# Altium schematic symbol library MezzaninBoard.SchLib: 20 symbols
Pins are listed as number, name and electrical type; pins without a type are passive.

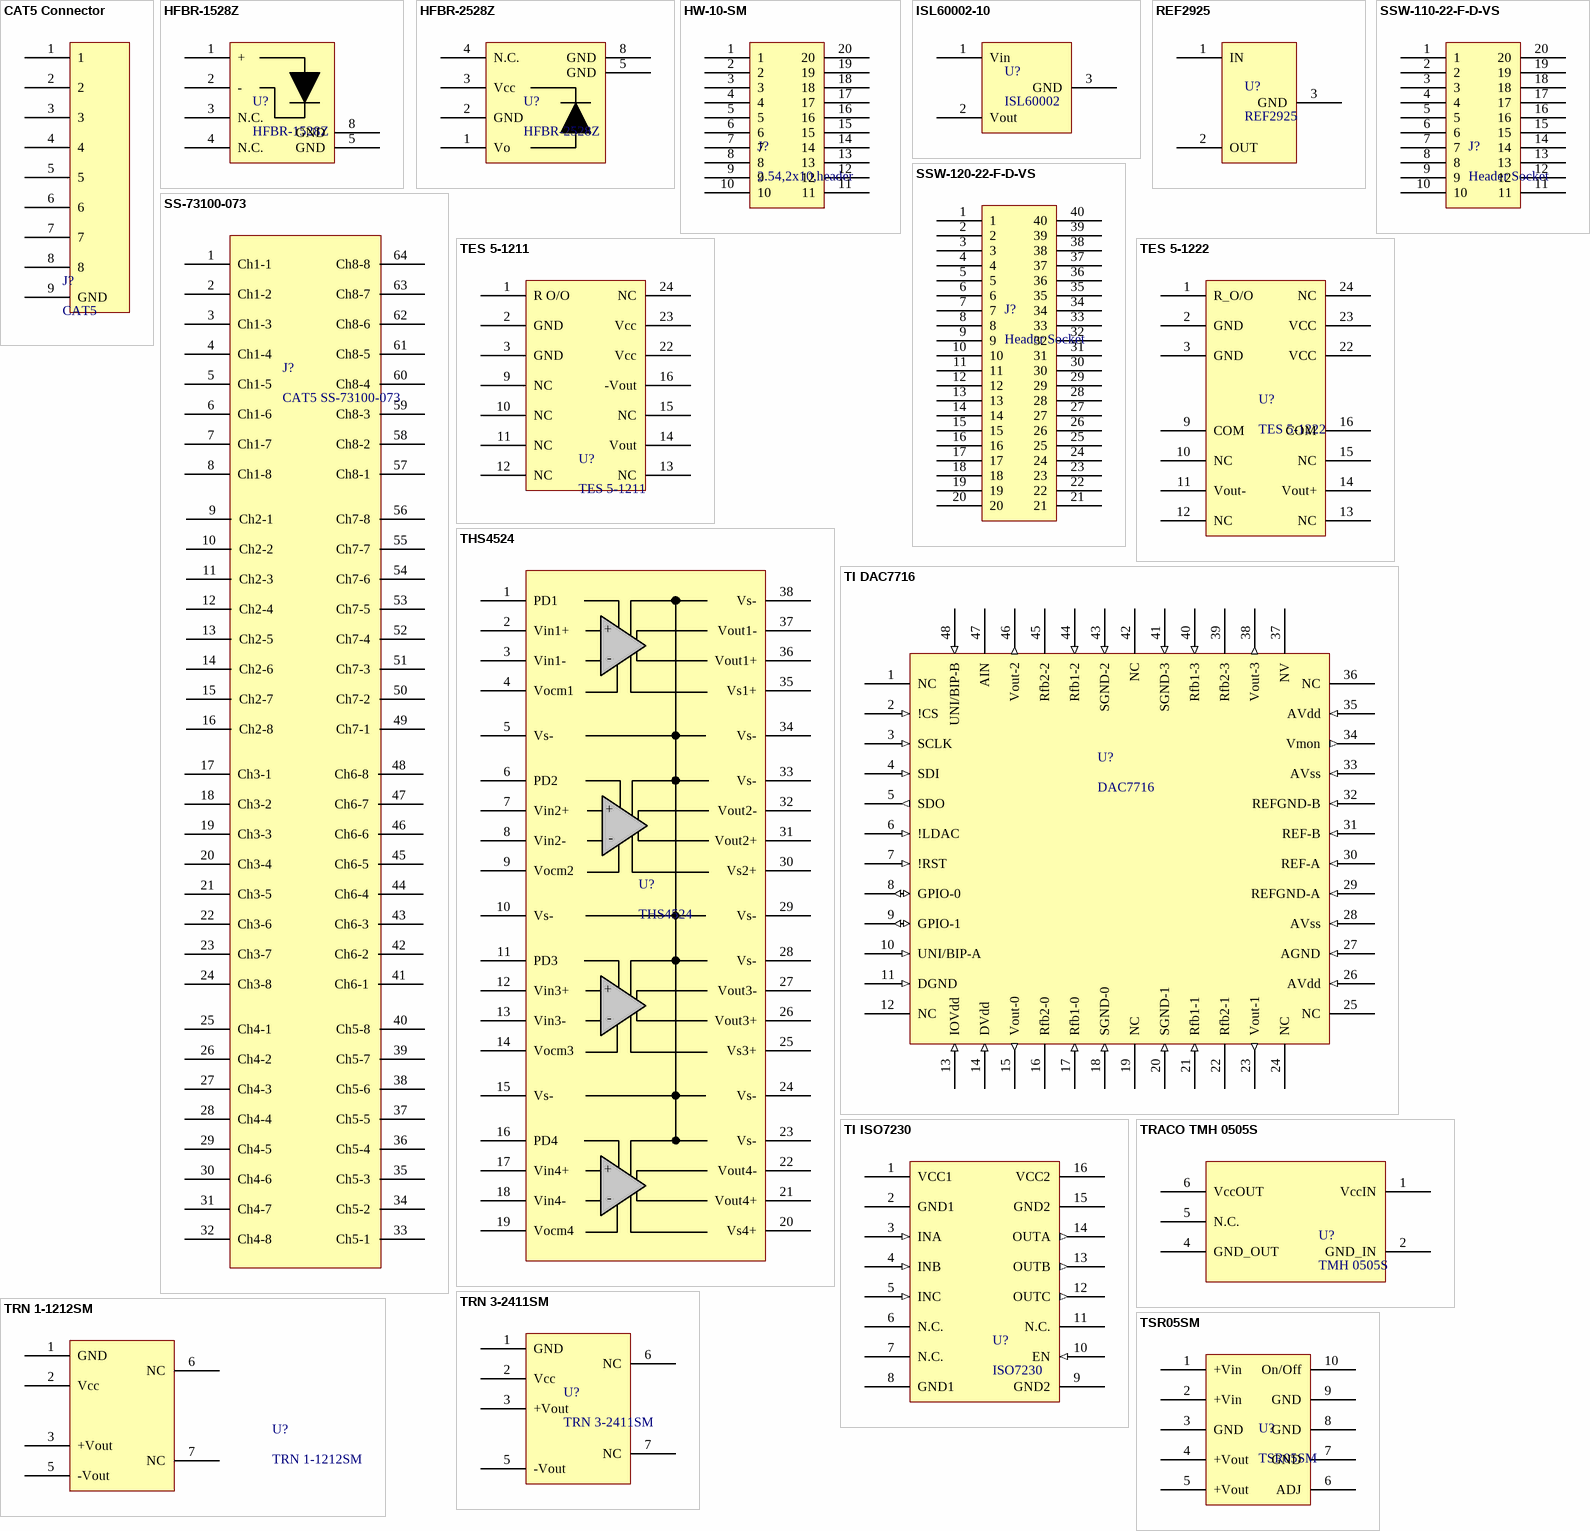
[diagram p0: symbols CAT5 Connector to TSR05SM]

## CAT5 Connector
designator J?, comment CAT5
CAT5 Connector
footprint CAT5 JACK
pins: 1, 2, 3, 4, 5, 6, 7, 8, 9 GND

## HFBR-1528Z
designator U?
Optical Transmitter
footprint HFBR25XX
pins: 1 + "Anode", 2 - "Cathode", 3 N.C. "Not Connected", 4 N.C. "Not Connected", 5 GND, 8 GND

## HFBR-2528Z
designator U?
Optical Reciever
footprint HFBR25XX
pins: 1 Vo "Data", 2 GND "Ground", 3 Vcc "Source", 4 N.C. "Not Connected", 5 GND, 8 GND

## HW-10-SM
designator J?, comment 2.54,2x10,header
2.54mm spacing, 2 rows, 10 pin, surface mounted header
footprint HW-10-20-F-D-825-SM
footprint HW-10-08-F-D-250-SM
pins: 1, 2, 3, 4, 5, 6, 7, 8, 9, 10, 11, 12, 13, 14, 15, 16, 17, 18, 19, 20

## ISL60002-10
designator U?, comment ISL60002
1.024V ref voltage
footprint REF2925 (TI 2.5V Ref source)
pins: 1 Vin, 2 Vout, 3 GND

## REF2925
designator U?
2.5V reference coltage
footprint REF2925 (TI 2.5V Ref source)
pins: 1 IN, 2 OUT, 3 GND

## SS-73100-073
designator J?, comment CAT5 SS-73100-073
8p8c RJ45, Stewart Connector, 8 Ch
footprint CT730079 (8 Channel CAT5 Connector)
pins: 1 Ch1-1, 2 Ch1-2, 3 Ch1-3, 4 Ch1-4, 5 Ch1-5, 6 Ch1-6, 7 Ch1-7, 8 Ch1-8, 9 Ch2-1, 10 Ch2-2, 11 Ch2-3, 12 Ch2-4, 13 Ch2-5, 14 Ch2-6, 15 Ch2-7, 16 Ch2-8, 17 Ch3-1, 18 Ch3-2, 19 Ch3-3, 20 Ch3-4, 21 Ch3-5, 22 Ch3-6, 23 Ch3-7, 24 Ch3-8, 25 Ch4-1, 26 Ch4-2, 27 Ch4-3, 28 Ch4-4, 29 Ch4-5, 30 Ch4-6, 31 Ch4-7, 32 Ch4-8, 33 Ch5-1, 34 Ch5-2, 35 Ch5-3, 36 Ch5-4, 37 Ch5-5, 38 Ch5-6, 39 Ch5-7, 40 Ch5-8, 41 Ch6-1, 42 Ch6-2, 43 Ch6-3, 44 Ch6-4, 45 Ch6-5, 46 Ch6-6, 47 Ch6-7, 48 Ch6-8, 49 Ch7-1, 50 Ch7-2, 51 Ch7-3, 52 Ch7-4, 53 Ch7-5, 54 Ch7-6, 55 Ch7-7, 56 Ch7-8, 57 Ch8-1, 58 Ch8-2, 59 Ch8-3, 60 Ch8-4, 61 Ch8-5, 62 Ch8-6, 63 Ch8-7, 64 Ch8-8

## SSW-110-22-F-D-VS
designator J?, comment Header Socket
2 rows, 10 pins, 2.54mm spacing
footprint SSW-110-22-F-D-VS
pins: 1, 2, 3, 4, 5, 6, 7, 8, 9, 10, 11, 12, 13, 14, 15, 16, 17, 18, 19, 20

## SSW-120-22-F-D-VS
designator J?, comment Header Socket
2 rows, 20 pins, 2.54mm spacing
footprint SSW-120-22-F-D-VS
pins: 1, 2, 3, 4, 5, 6, 7, 8, 9, 10, 11, 12, 13, 14, 15, 16, 17, 18, 19, 20, 21, 22, 23, 24, 25, 26, 27, 28, 29, 30, 31, 32, 33, 34, 35, 36, 37, 38, 39, 40

## TES 5-1211
designator U?
12V to 5V, 5W voltage regulator, TRACOPOWER
footprint TES 5-1222
pins: 1 R O/O, 2 GND, 3 GND, 9 NC, 10 NC, 11 NC, 12 NC, 13 NC, 14 Vout, 15 NC, 16 -Vout, 22 Vcc, 23 Vcc, 24 NC

## TES 5-1222
designator U?
12V to +-12V voltage regulator, 5W
footprint TES 5-1222
pins: 1 R_O/O "remote On/Off", 2 GND, 3 GND, 9 COM, 10 NC, 11 Vout-, 12 NC, 13 NC, 14 Vout+, 15 NC, 16 COM, 22 VCC, 23 VCC, 24 NC

## THS4524
designator U?
4 Ch Dif OP Amp
footprint THS4524 Footprint (THS4524 4Ch Dif Amp, TSSOP)
pins: 1 PD1 "Power Down Ch1", 2 Vin1+ "Input Ch1", 3 Vin1- "Inv Input Ch1", 4 Vocm1 "Ch1 Common-mode", 5 Vs- "Negative Source", 6 PD2 "Power Down Ch2", 7 Vin2+ "Input Ch2", 8 Vin2- "Inv Input Ch2", 9 Vocm2 "Ch2 Common-mode", 10 Vs- "Negative Source", 11 PD3 "Power Down Ch3", 12 Vin3+ "Input Ch3", 13 Vin3- "Inv Input Ch3", 14 Vocm3 "Ch3 Common-mode", 15 Vs- "Negative Source", 16 PD4 "Power Down Ch4", 17 Vin4+ "Input Ch4", 18 Vin4- "Inv Input Ch4", 19 Vocm4 "Ch4 Common-mode", 20 Vs4+ "Ch4 Source", 21 Vout4+ "Ch4 Noninv Output", 22 Vout4- "Ch4 Inv Output", 23 Vs- "Negative Source", 24 Vs- "Negative Source", 25 Vs3+ "Ch3 Source", 26 Vout3+ "Ch3 Noninv Output", 27 Vout3- "Ch3 Inv Output", 28 Vs- "Negative Source", 29 Vs- "Negative Source", 30 Vs2+ "Ch2 Source", 31 Vout2+ "Ch2 Noninv Output", 32 Vout2- "Ch2 Inv Output", 33 Vs- "Negative Source", 34 Vs- "Negative Source", 35 Vs1+ "Ch1 Source", 36 Vout1+ "Ch1 Noninv Output", 37 Vout1- "Ch1 Inv Output", 38 Vs- "Negative Source"
text: +; -

## TI DAC7716
designator U?, comment DAC7716
Quad Channel, 12 Bit, Serial Input, Digital-Analog Converter
footprint TI DAC7716 (TSQFP, 48-Leads, Body 7,00x7,00mm, Pitch 0,50mm, IPC Medium Density)
pins: 1 NC "Not connected", 2 !CS (in) "Inv Chip Select", 3 SCLK (in) "SPI bus clock", 4 SDI (in) "SPI bus input data", 5 SDO (out) "SPI output data", 6 !LDAC (in) "Load DAC latch control", 7 !RST (in) "Reset", 8 GPIO-0 (io) "General Purpose I/O", 9 GPIO-1 (io) "General Purpose !/O", 10 UNI/BIP-A (in) "Output mode group A", 11 DGND (in) "Digital ground", 12 NC "Not connected", 13 IOVdd (in) "Interface Power", 14 DVdd (in) "Digital Power", 15 Vout-0 (out) "DAC-0 Output", 16 Rfb2-0 "DAC-0 Rfb2 feedback", 17 Rfb1-0 (in) "DAC-0 Rfb1 feedback", 18 SGND-0 (in) "DAC-0 signal ground", 19 NC "Not connected", 20 SGND-1 (in) "DAC-1 signal ground", 21 Rfb1-1 (in) "DAC-1 Rfb1 feedback", 22 Rfb2-1 "DAC-1 Rfb2 feedback", 23 Vout-1 (out) "DAC-1 output", 24 NC "Not connected", 25 NC "Not connected", 26 AVdd (in) "Positive analog power supply", 27 AGND (in) "Analog ground", 28 AVss (in) "Negative analog power supply", 29 REFGND-A (in) "Reference ground A", 30 REF-A (in) "Group A", 31 REF-B (in) "Group B", 32 REFGND-B (in) "Reference ground B", 33 AVss (in) "Negative analog power supply", 34 Vmon (out) "Analog monitor output", 35 AVdd (in) "Positive analog power supply", 36 NC "Not connected", 37 NV "Not connected", 38 Vout-3 (out) "DAC-3 output", 39 Rfb2-3 "DAC-3 Rfb2 feedback", 40 Rfb1-3 (in) "DAC-3 Rfb1 feedback", 41 SGND-3 (in) "DAC-3 sigbal ground", 42 NC "Not connected", 43 SGND-2 (in) "DAC-2 signal ground", 44 Rfb1-2 (in) "DAC-2 Rfb1 feedback", 45 Rfb2-2 "DAC-2 Rfb2 feedback", 46 Vout-2 (out) "DAC-2 output", 47 AIN "Auxiliary analog input", 48 UNI/BIP-B (in) "Output mode group B"

## TI ISO7230
designator U?, comment ISO7230
High-Speed, Triple-Channel Digital Isolator
footprint TI ISO7230 SOIC (SOIC, 16-Leads, Body 10,30x7,50mm, Pitch 1,27mm, IPC Medium Density)
pins: 1 VCC1 "Source Level 1", 2 GND1 "Ground Level 1", 3 INA (in) "Input Ch1", 4 INB (in) "Input Ch2", 5 INC (in) "Input Ch3", 6 N.C. "Not connected", 7 N.C. "Not connected", 8 GND1 "Ground Level 1", 9 GND2 "Ground Level 2", 10 EN (in) "Enable Ch1-3", 11 N.C. "Not connected", 12 OUTC (out) "Output Ch3", 13 OUTB (out) "Output Ch2", 14 OUTA (out) "Output Ch1", 15 GND2 "Ground Level 2", 16 VCC2 "Source Level 2"

## TRACO TMH 0505S
designator U?, comment TMH 0505S
5V/5V DC-DC Isolation Converter
footprint SIL-6(7) (SIP; 7 Leads (1 Absent); Body 19.5 x 6 mm (LxW typ); Pitch 2.54 mm)
pins: 1 VccIN, 2 GND_IN, 4 GND_OUT, 5 N.C., 6 VccOUT

## TRN 1-1212SM
designator U?
TRACO 12V/12V 1W voltage regulator
footprint TRN 3-2411SM
pins: 1 GND, 2 Vcc, 3 +Vout, 5 -Vout, 6 NC, 7 NC

## TRN 3-2411SM
designator U?
TRACO 3W 12V-5V voltage regulator
footprint TRN 3-2411SM
pins: 1 GND, 2 Vcc, 3 +Vout, 5 -Vout, 6 NC, 7 NC

## TSR05SM
designator U?
TRACOPOWER 0.5A DC/DC Regulator 12V-2.5V
footprint TSR05SM
pins: 1 +Vin, 2 +Vin, 3 GND, 4 +Vout, 5 +Vout, 6 ADJ, 7 GND, 8 GND, 9 GND, 10 On/Off

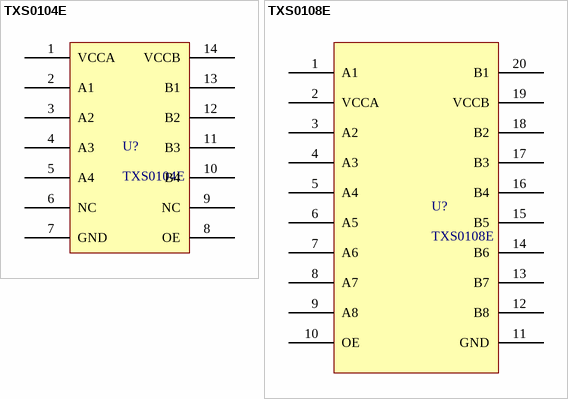
[diagram p1: symbols TXS0104E to TXS0108E]

## TXS0104E
designator U?
4 Ch. Bidir. Voltage-Level translator
footprint TSX0104EPW
pins: 1 VCCA, 2 A1, 3 A2, 4 A3, 5 A4, 6 NC, 7 GND, 8 OE, 9 NC, 10 B4, 11 B3, 12 B2, 13 B1, 14 VCCB

## TXS0108E
designator U?
8 Ch. Bidirectional Voltage-Level translator
footprint TXS0108E
pins: 1 A1, 2 VCCA, 3 A2, 4 A3, 5 A4, 6 A5, 7 A6, 8 A7, 9 A8, 10 OE, 11 GND, 12 B8, 13 B7, 14 B6, 15 B5, 16 B4, 17 B3, 18 B2, 19 VCCB, 20 B1